# Altium footprint library AdamsParts.PcbLib: 238 footprints (part 2 of 15)
Each footprint in its own frame and in the unit in brackets; x right, y up, seen from the top. Pads: shape width x height; smd on the part's side, far side on the other; paste and mask are expansions set on the pad; w line width, h text height; cw(c..) or ccw(c..) is an arc to the next point about the centre after c.
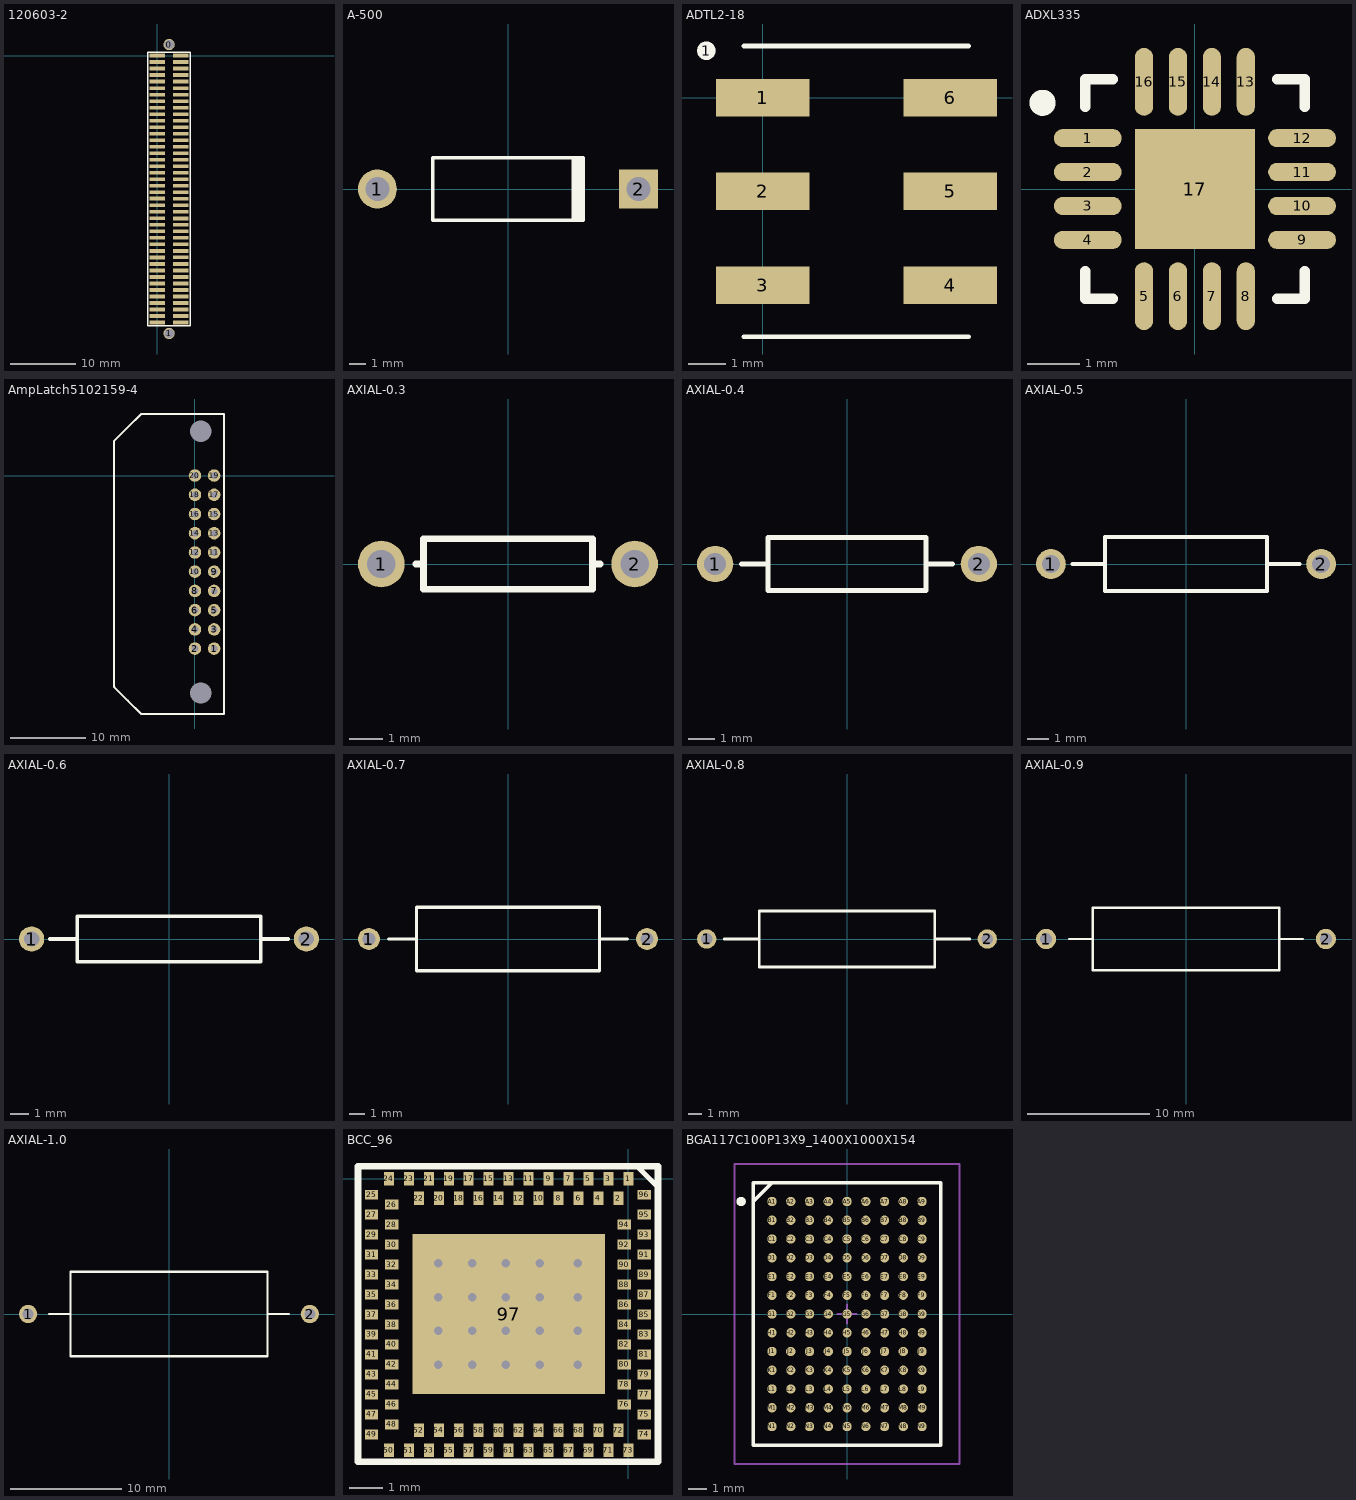
[diagram p1: the footprints below, top view; thin cyan lines are the x and y axes]

## 120603-2 [mm]
pads (86):
  round 1.727 hole 1.422: 0(1.803,1.702) 1(1.803,-42.697)
  rect 2.4x0.6 smd: 1(3.6,0) 2(0,0) 3(3.6,-1) 4(0,-1) 5(3.6,-2) 6(0,-2) 7(3.6,-3) 8(0,-3) 9(3.6,-4) 10(0,-4) 11(3.6,-5) 12(0,-5) 13(3.6,-6) 14(0,-6) 15(3.6,-7) 16(0,-7) 17(3.6,-8) 18(0,-8) 19(3.6,-9) 20(0,-9) 21(3.6,-10) 22(0,-10) 23(3.6,-11) 24(0,-11) 25(3.6,-12) 26(0,-12) 27(3.6,-13) 28(0,-13) 29(3.6,-14) 30(0,-14) 31(3.6,-15) 32(0,-15) 33(3.6,-16) 34(0,-16) 35(3.6,-17) 36(0,-17) 37(3.6,-18) 38(0,-18) 39(3.6,-19) 40(0,-19) 41(3.6,-20) 42(0,-20) 43(3.6,-21) 44(0,-21) 45(3.6,-22) 46(0,-21.971) 47(3.6,-23) 48(0,-23) 49(3.6,-24) 50(0,-24) 51(3.6,-25.019) 52(0,-25) 53(3.6,-26) 54(0,-26) 55(3.6,-27) 56(0,-27) 57(3.6,-28) 58(0,-28) 59(3.6,-29) 60(0,-29) 61(3.6,-30) 62(0,-30) 63(3.6,-30.988) 64(0,-31) 65(3.6,-32.004) 66(0,-32) 67(3.6,-33) 68(0,-33) 69(3.6,-34) 70(0,-34) 71(3.6,-35) 72(0,-35) 73(3.6,-36) 74(0,-36) 75(3.6,-37) 76(0,-37) 77(3.6,-38) 78(0,-38) 79(3.6,-39) 80(0,-39) 81(3.6,-40) 82(0,-40) 83(3.6,-41) 84(0,-41)
Top Overlay:
  lines w0.2: -1.524,-41.529 -1.524,0.508 1.778,0.508 5.08,0.508 5.08,-41.529 -1.524,-41.529

## A-500 [mm]
pads (2):
  round 2.3 hole 1.4: 1(-7.725,0)
  rect 2.3x2.3 hole 1.4: 2(7.725,0)
Top Overlay:
  rectangle: 3.745,-1.85 4.545,1.85
  lines w0.2: 4.45,-1.85 -4.45,-1.85 -4.45,1.85 4.45,1.85

## AD8351ARM [mm] "Differential RF/IF amplifier"

## ADTL2-18 [mil] "Minicircuits 1:2 balun"
height 112
pads (7):
  round 20 on Top Overlay: 1(-60,50)
  rect 100x40 smd: 1(0,0) 2(0,-100) 3(0,-200) 4(200,-200) 5(200,-100) 6(200,0)
Top Overlay:
  lines w5: -20,-255 220,-255 ; -20,55 220,55

## ADXL335 [mm] "QFN, 16-Leads, Body 4.2x4.2mm (max), Pitch 0.65mm, IPC Low Density"
height 1.5
pads (17):
  oval 1.3x0.35 smd: 1(-2.052,0.975) 2(-2.052,0.325) 3(-2.052,-0.325) 4(-2.052,-0.975) 9(2.052,-0.975) 10(2.052,-0.325) 11(2.052,0.325) 12(2.052,0.975)
  oval 0.35x1.3 smd: 5(-0.975,-2.052) 6(-0.325,-2.052) 7(0.325,-2.052) 8(0.975,-2.052) 13(0.975,2.052) 14(0.325,2.052) 15(-0.325,2.052) 16(-0.975,2.052)
  rect 2.3x2.3 smd: 17(0,0)
Top Overlay:
  circle w0.25: c-2.919,1.651 r0.125
  lines w0.2: -2.1,-1.575 -2.1,-2.1 -1.575,-2.1 ; -2.1,1.575 -2.1,2.1 -1.575,2.1 ; 1.575,-2.1 2.1,-2.1 2.1,-1.575 ; 1.575,2.1 2.1,2.1 2.1,1.575

## AmpLatch5102159-4 [mil] "20pin 2 row right angle header with latch/ejector"
height 335.83
pads (22):
  round 65 hole 35: 1(100,-900) 2(0,-900) 3(100,-800) 4(0,-800) 5(100,-700) 6(0,-700) 7(100,-600) 8(0,-600) 9(100,-500) 10(0,-500) 11(100,-400) 12(0,-400) 13(100,-300) 14(0,-300) 15(100,-200) 16(0,-200) 17(100,-100) 18(0,-100) 19(100,0) 20(0,0)
  round 45 hole 110: ""(30,-1130) ""(30,230)
Top Overlay:
  lines w10: -420,-1100 -420,180 -350,250 -280,320 150,320 150,-1240 -279,-1240 -349,-1170 -419,-1100

## AXIAL-0.3 [mm] "Axial Device, Thru-Hole; 2 Leads; 0.3 in Pin Spacing"
height 1.524
pads (2):
  round 1.4 hole 0.85: 1(-3.81,0) 2(3.81,0)
Top Overlay:
  lines w0.2: -2.769,0 -2.54,0 ; 2.769,0 2.54,0 ; 2.54,0 2.54,-0.762 -2.54,-0.762 -2.54,0.762 2.54,0.762 2.54,0

## AXIAL-0.4 [mm] "Axial Device, Thru-Hole; 2 Leads; 0.4 in Pin Spacing"
height 2.032
pads (2):
  round 1.4 hole 0.85: 1(-5.08,0) 2(5.08,0)
Top Overlay:
  lines w0.2: -4.064,0 -3.048,0 ; 3.048,0 4.064,0 ; -3.048,-1.016 3.048,-1.016 3.048,1.016 -3.048,1.016 -3.048,-1.016

## AXIAL-0.5 [mm] "Axial Device, Thru-Hole; 2 Leads; 0.5 in Pin Spacing"
height 2.54
pads (2):
  round 1.4 hole 0.85: 1(-6.35,0) 2(6.35,0)
Top Overlay:
  lines w0.2: -5.334,0 -3.81,0 ; 3.81,0 5.334,0 ; -3.81,-1.27 -3.81,1.27 3.81,1.27 3.81,-1.27 -3.81,-1.27

## AXIAL-0.6 [mm] "Axial Device, Thru-Hole; 2 Leads; 0.6 in Pin Spacing"
height 2.54
pads (2):
  round 1.4 hole 0.85: 1(-7.62,0) 2(7.62,0)
Top Overlay:
  lines w0.2: -6.604,0 -5.08,0 ; 5.08,0 6.604,0 ; -5.08,-1.27 5.08,-1.27 5.08,1.27 -5.08,1.27 -5.08,-1.27

## AXIAL-0.7 [mm] "Axial Device, Thru-Hole; 2 Leads; 0.7 in Pin Spacing"
height 4.064
pads (2):
  round 1.4 hole 0.85: 1(-8.89,0) 2(8.89,0)
Top Overlay:
  lines w0.2: -7.62,0 -5.842,0 ; 5.842,0 7.62,0 ; -5.842,-2.032 5.842,-2.032 5.842,2.032 -5.842,2.032 -5.842,-2.032

## AXIAL-0.8 [mm] "Axial Device, Thru-Hole; 2 Leads; 0.8 in Pin Spacing"
height 4.064
pads (2):
  round 1.4 hole 0.85: 1(-10.16,0) 2(10.16,0)
Top Overlay:
  lines w0.2: -8.89,0 -6.35,0 ; 6.35,0 8.89,0 ; -6.35,-2.032 -6.35,2.032 6.35,2.032 6.35,-2.032 -6.35,-2.032

## AXIAL-0.9 [mm] "Axial Device, Thru-Hole; 2 Leads; 0.9 in Pin Spacing"
height 5.08
pads (2):
  round 1.65 hole 1: 1(-11.43,0) 2(11.43,0)
Top Overlay:
  lines w0.2: -9.525,0 -7.62,0 ; 7.62,0 9.525,0 ; -7.62,-2.54 7.62,-2.54 7.62,2.54 -7.62,2.54 -7.62,-2.54

## AXIAL-1.0 [mm] "Axial Device, Thru-Hole; 2 Leads; 1.0 in Pin Spacing"
height 7.62
pads (2):
  round 1.65 hole 1: 1(-12.7,0) 2(12.7,0)
Top Overlay:
  lines w0.2: -10.795,0 -8.89,0 ; 8.89,0 10.795,0 ; -8.89,-3.81 8.89,-3.81 8.89,3.81 -8.89,3.81 -8.89,-3.81

## BCC_96 [mm]
pads (97):
  rect 0.3x0.4 smd: 1(0,0) 2(-0.3,-0.584) 3(-0.6,0) 4(-0.9,-0.584) 5(-1.2,0) 6(-1.5,-0.584) 7(-1.8,0) 8(-2.1,-0.584) 9(-2.4,0) 10(-2.7,-0.584) 11(-3,0) 12(-3.3,-0.584) 13(-3.6,0) 14(-3.9,-0.584) 15(-4.2,0) 16(-4.5,-0.584) 17(-4.8,0) 18(-5.1,-0.584) 19(-5.4,0) 20(-5.7,-0.584) 21(-6,0) 22(-6.3,-0.584) 23(-6.6,0) 24(-7.2,0) 50(-7.2,-8.16) 51(-6.6,-8.16) 52(-6.3,-7.559) 53(-6,-8.16) 54(-5.7,-7.559) 55(-5.4,-8.16) 56(-5.1,-7.559) 57(-4.8,-8.16) 58(-4.5,-7.559) 59(-4.2,-8.16) 60(-3.9,-7.559) 61(-3.6,-8.16) 62(-3.3,-7.559) 63(-3,-8.16) 64(-2.7,-7.559) 65(-2.4,-8.16) 66(-2.1,-7.559) 67(-1.8,-8.16) 68(-1.5,-7.559) 69(-1.2,-8.16) 70(-0.9,-7.559) 71(-0.6,-8.16) 72(-0.3,-7.559) 73(0,-8.16)
  rect 0.4x0.3 smd: 25(-7.722,-0.48) 26(-7.112,-0.78) 27(-7.722,-1.08) 28(-7.112,-1.38) 29(-7.722,-1.68) 30(-7.112,-1.98) 31(-7.722,-2.28) 32(-7.112,-2.58) 33(-7.722,-2.88) 34(-7.112,-3.18) 35(-7.722,-3.48) 36(-7.112,-3.78) 37(-7.722,-4.08) 38(-7.112,-4.38) 39(-7.722,-4.68) 40(-7.112,-4.98) 41(-7.722,-5.28) 42(-7.112,-5.58) 43(-7.722,-5.88) 44(-7.112,-6.18) 45(-7.722,-6.48) 46(-7.112,-6.78) 47(-7.722,-7.08) 48(-7.112,-7.38) 49(-7.722,-7.68) 74(0.48,-7.68) 75(0.48,-7.08) 76(-0.127,-6.78) 77(0.48,-6.48) 78(-0.127,-6.18) 79(0.48,-5.88) 80(-0.127,-5.58) 81(0.48,-5.28) 82(-0.127,-4.98) 83(0.48,-4.68) 84(-0.127,-4.38) 85(0.48,-4.08) 86(-0.127,-3.78) 87(0.48,-3.48) 88(-0.127,-3.18) 89(0.48,-2.88) 90(-0.127,-2.58) 91(0.48,-2.28) 92(-0.127,-1.98) 93(0.48,-1.68) 94(-0.127,-1.38) 95(0.48,-1.08) 96(0.48,-0.48)
  rect 5.791x4.801 smd: 97(-3.6,-4.064)
via -5.715,-2.54 diameter 0.406 hole 0.254
via -4.699,-2.54 diameter 0.406 hole 0.254
via -3.683,-2.54 diameter 0.406 hole 0.254
via -2.667,-2.54 diameter 0.406 hole 0.254
via -1.524,-2.54 diameter 0.406 hole 0.254
via -5.715,-3.556 diameter 0.406 hole 0.254
via -4.699,-3.556 diameter 0.406 hole 0.254
via -3.683,-3.556 diameter 0.406 hole 0.254
via -2.667,-3.556 diameter 0.406 hole 0.254
via -1.524,-3.556 diameter 0.406 hole 0.254
via -5.715,-4.572 diameter 0.406 hole 0.254
via -4.699,-4.572 diameter 0.406 hole 0.254
via -3.683,-4.572 diameter 0.406 hole 0.254
via -2.667,-4.572 diameter 0.406 hole 0.254
via -1.524,-4.572 diameter 0.406 hole 0.254
via -5.715,-5.588 diameter 0.406 hole 0.254
via -4.699,-5.588 diameter 0.406 hole 0.254
via -3.683,-5.588 diameter 0.406 hole 0.254
via -2.667,-5.588 diameter 0.406 hole 0.254
via -1.524,-5.588 diameter 0.406 hole 0.254
Top Overlay:
  lines w0.152: 0.254,0.381 0.889,-0.254
  lines w0.2: -8.128,-8.509 0.889,-8.509 0.889,0.381 -8.128,0.381 -8.128,-0.254 -8.128,-8.509

## BGA117C100P13X9_1400X1000X154 [mm]
pads (117):
  round 0.5 smd: A1(-4,6) A2(-3,6) A3(-2,6) A4(-1,6) A5(0,6) A6(1,6) A7(2,6) A8(3,6) A9(4,6) B1(-4,5) B2(-3,5) B3(-2,5) B4(-1,5) B5(0,5) B6(1,5) B7(2,5) B8(3,5) B9(4,5) C1(-4,4) C2(-3,4) C3(-2,4) C4(-1,4) C5(0,4) C6(1,4) C7(2,4) C8(3,4) C9(4,4) D1(-4,3) D2(-3,3) D3(-2,3) D4(-1,3) D5(0,3) D6(1,3) D7(2,3) D8(3,3) D9(4,3) E1(-4,2) E2(-3,2) E3(-2,2) E4(-1,2) E5(0,2) E6(1,2) E7(2,2) E8(3,2) E9(4,2) F1(-4,1) F2(-3,1) F3(-2,1) F4(-1,1) F5(0,1) F6(1,1) F7(2,1) F8(3,1) F9(4,1) G1(-4,0) G2(-3,0) G3(-2,0) G4(-1,0) G5(0,0) G6(1,0) G7(2,0) G8(3,0) G9(4,0) H1(-4,-1) H2(-3,-1) H3(-2,-1) H4(-1,-1) H5(0,-1) H6(1,-1) H7(2,-1) H8(3,-1) H9(4,-1) J1(-4,-2) J2(-3,-2) J3(-2,-2) J4(-1,-2) J5(0,-2) J6(1,-2) J7(2,-2) J8(3,-2) J9(4,-2) K1(-4,-3) K2(-3,-3) K3(-2,-3) K4(-1,-3) K5(0,-3) K6(1,-3) K7(2,-3) K8(3,-3) K9(4,-3) L1(-4,-4) L2(-3,-4) L3(-2,-4) L4(-1,-4) L5(0,-4) L6(1,-4) L7(2,-4) L8(3,-4) L9(4,-4) M1(-4,-5) M2(-3,-5) M3(-2,-5) M4(-1,-5) M5(0,-5) M6(1,-5) M7(2,-5) M8(3,-5) M9(4,-5) N1(-4,-6) N2(-3,-6) N3(-2,-6) N4(-1,-6) N5(0,-6) N6(1,-6) N7(2,-6) N8(3,-6) N9(4,-6)
Top Overlay:
  circle w0.25: c-5.65,6 r0.125
  lines w0.2: -5,6 -4,7 ; -5,-7 5,-7 5,7 -5,7 -5,-7
Mechanical 13:
  lines w0.1: -5,-7 5,-7 5,7 -5,7 -5,-7
Mechanical 15:
  lines w0.1: -0.5,0 0.5,0 ; 0,-0.5 0,0.5 ; -6,-8 6,-8 6,8 -6,8 -6,-8